# EAGLE library part EC2-5NU (library EC2-5NU)
Electromechanical Relay DPDT 2A 5VDC 178Ohm Through Hole
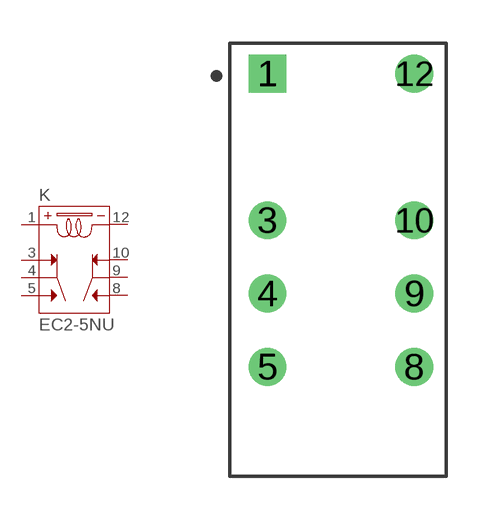
[diagram p0: symbol with the pads of RELAY_EC2-5NU; footprint RELAY_EC2-5NU]

Designator prefix K

## EC2-5NU (Description: General Purpose Relay DPDT (2 Form C) Through Hole; Digi-Key_Part_Number: 399-11052-5-ND; MF: KEMET; MP: EC2-5NU; Package: None; Purchase-URL: https://pricing.snapeda.com/search/part/EC2-5NU/?ref=eda)  [RELAY_EC2-5NU]
1  1  pas
3  3  pas
4  4  pas
5  5  pas
8  8  pas
9  9  pas
10  10  pas
12  12  pas

## Footprint RELAY_EC2-5NU (pad centres in mm)
drill 0.8 pad 1.2 square: 1 -2.54,6.45
drill 0.8 pad 1.2: 3 -2.54,1.37; 4 -2.54,-1.17; 5 -2.54,-3.71; 8 2.54,-3.71; 9 2.54,-1.17; 10 2.54,1.37; 12 2.54,6.45